# Altium footprint library O-jumper_C.PcbLib: 1 footprints
Each footprint in its own frame and in the unit in brackets; x right, y up, seen from the top. Pads: shape width x height; smd on the part's side, far side on the other; paste and mask are expansions set on the pad; w line width, h text height; cw(c..) or ccw(c..) is an arc to the next point about the centre after c.
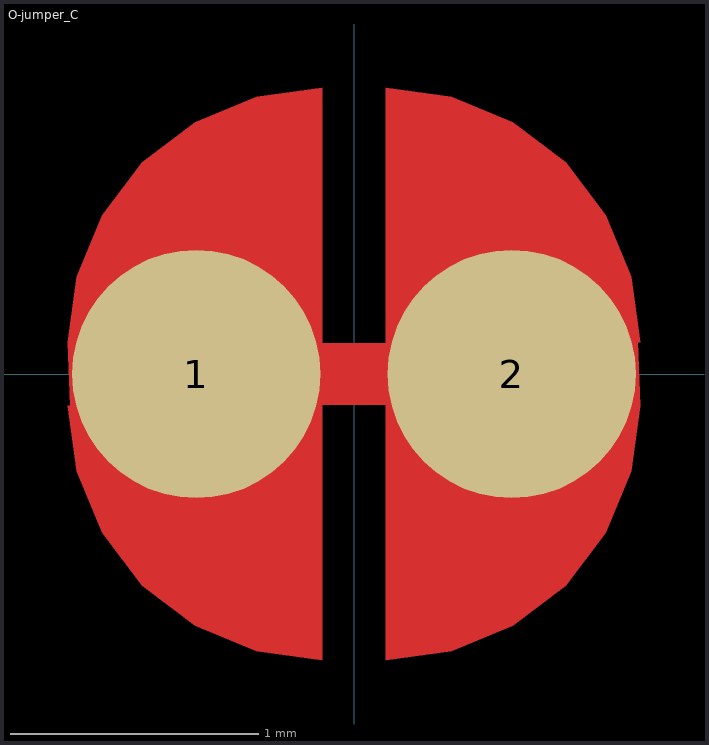
[diagram p0: the footprint, top view; thin cyan lines are the x and y axes]

## O-jumper_C [mm]
pads (2):
  round 1 smd paste-2: 1(-0.635,0) 2(0.635,0)
Top Layer:
  region: -0.127,-1.152 -0.392,-1.117 -0.639,-1.014 -0.852,-0.852 -1.014,-0.639 -1.117,-0.392 -1.152,-0.127 -1.143,-0.127 -1.152,0.127 -1.117,0.392 -1.014,0.639 -0.852,0.852 -0.639,1.014 -0.392,1.117 -0.127,1.152 -0.127,1.143
  region: 0.127,1.152 0.392,1.117 0.639,1.014 0.852,0.852 1.014,0.639 1.117,0.392 1.152,0.127 1.143,0.127 1.152,-0.127 1.117,-0.392 1.014,-0.639 0.852,-0.852 0.639,-1.014 0.392,-1.117 0.127,-1.152 0.127,-1.143
  lines w0.25: -0.635,0 0.635,0
Top Solder:
  region: 0,1.281 0.332,1.237 0.64,1.109 0.906,0.906 1.109,0.64 1.237,0.332 1.281,0 1.237,-0.332 1.109,-0.64 0.906,-0.906 0.64,-1.109 0.332,-1.237 0,-1.281 -0.332,-1.237 -0.64,-1.109 -0.906,-0.906 -1.109,-0.64 -1.237,-0.332 -1.281,0 -1.237,0.332 -1.109,0.64 -0.906,0.906 -0.64,1.109 -0.332,1.237